# Altium schematic symbol library Goldpins.SchLib: 7 symbols
Pins are listed as number, name and electrical type; pins without a type are passive.

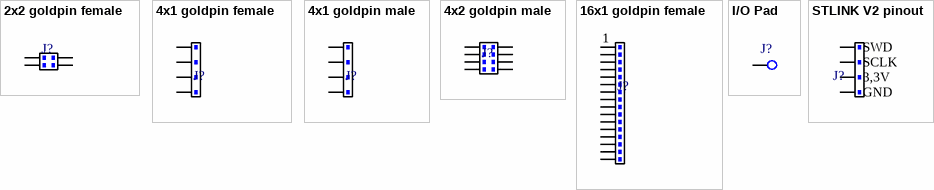
[diagram p0: symbols 2x2 goldpin female to STLINK V2 pinout]

## 2x2 goldpin female
designator J?, comment header  (value not drawn)
2x2 goldpin header female
footprint 2x2 header female
pins: 1, 2, 3, 4

## 4x1 goldpin female
designator J?, comment header  (value not drawn)
4x1 goldpin header female
footprint 4x1 header female
pins: 1, 2, 3, 4

## 4x1 goldpin male
designator J?, comment header  (value not drawn)
4x1 goldpin header male
footprint 4x1 goldpin male (4x1 goldpin header male)
pins: 1, 2, 3, 4

## 4x2 goldpin male
designator J?, comment header  (value not drawn)
4x2 goldpin header male
footprint 4x2 header male
pins: 1, 2, 3, 4, 5, 6, 7, 8

## 16x1 goldpin female
designator J?, comment header  (value not drawn)
16x1 goldpin header female
footprint 16x1 goldpin female (16x1 goldpin header female)
pins: 1, 2, 3, 4, 5, 6, 7, 8, 9, 10, 11, 12, 13, 14, 15, 16

## I/O Pad
designator J?, comment PAD  (value not drawn)
THT I/O Pad
footprint THT pad (1,8 mm I/O pad)
pins: 1

## STLINK V2 pinout
designator J?, comment header  (value not drawn)
STLINK V2 pinout
footprint STLINK V2 (STLINK V2 pins)
pins: 1 SWD, 2 SCLK, 3 3,3V, 4 GND